# Altium footprint library BOURNS-MOV-10D301K.PcbLib: 1 footprints
Each footprint in its own frame and in the unit in brackets; x right, y up, seen from the top. Pads: shape width x height; smd on the part's side, far side on the other; paste and mask are expansions set on the pad; w line width, h text height; cw(c..) or ccw(c..) is an arc to the next point about the centre after c.
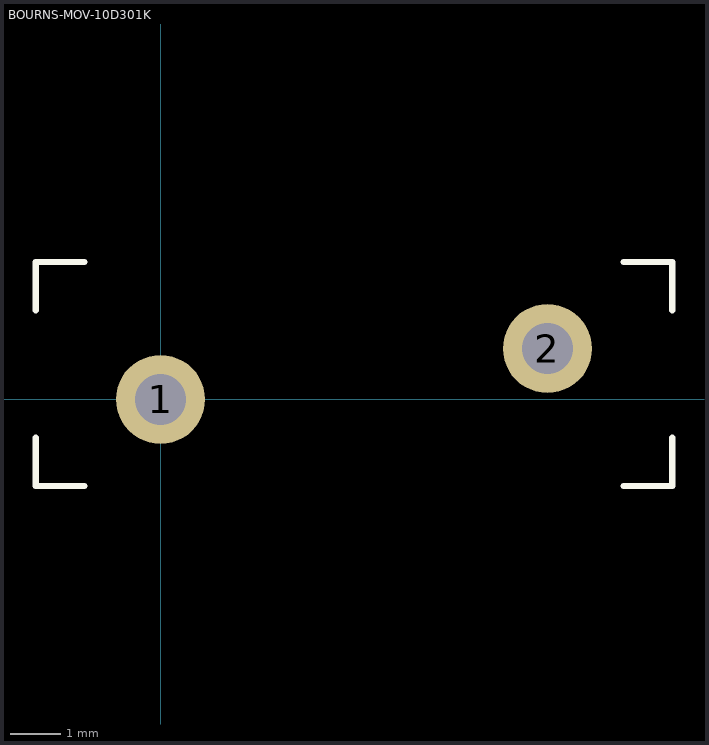
[diagram p0: the footprint, top view; thin cyan lines are the x and y axes]

## BOURNS-MOV-10D301K [mm] "Bourns MOV-10DzzzK series"
pads (2):
  round 1.75 hole 1: 1(0,0) 2(7.6,1)
Top Overlay:
  lines w0.127: -2.45,-0.75 -2.45,-1.7 -1.5,-1.7 ; -2.45,1.75 -2.45,2.7 -1.5,2.7 ; 9.1,-1.7 10.05,-1.7 10.05,-0.75 ; 9.1,2.7 10.05,2.7 10.05,1.75
3D body "mov-10d301k.stp": height 16.25, standoff -19.25, extent -2.45,-1.7 10.05,2.7